# EAGLE library part TXU0101QDCKRQ1 (library txu0101qdckrq1)
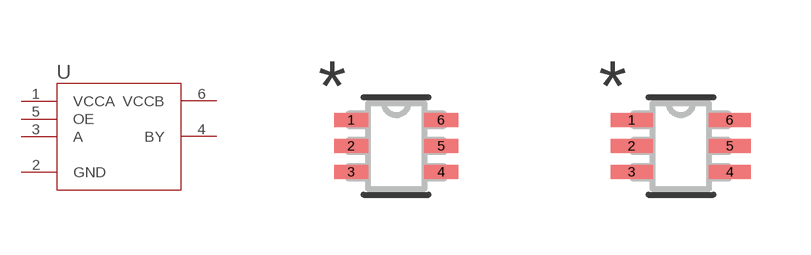
[diagram p0: symbol with the pads of SOT_101QDCKRQ1_TEX; footprints SOT_101QDCKRQ1_TEX, SOT_101QDCKRQ1_TEX-M]

Designator prefix U

## TXU0101QDCKRQ1 (COPYRIGHT: Copyright (C) 2024 Ultra Librarian. All rights reserved.; MANUFACTURER_PART_NUMBER: TXU0101QDCKRQ1; MFR_NAME: Texas Instruments)  [SOT_101QDCKRQ1_TEX]
1  VCCA  pwr
2  GND  pas
3  A  pas
4  BY  pas
5  OE  pas
6  VCCB  pwr

## TXU0101QDCKRQ1SOT_101QDCKRQ1_TEX-M (COPYRIGHT: Copyright (C) 2024 Ultra Librarian. All rights reserved.; MANUFACTURER_PART_NUMBER: TXU0101QDCKRQ1; MFR_NAME: Texas Instruments)  [SOT_101QDCKRQ1_TEX-M]
Pads as for SOT_101QDCKRQ1_TEX

## TXU0101QDCKRQ1SOT_101QDCKRQ1_TEX-L (COPYRIGHT: Copyright (C) 2024 Ultra Librarian. All rights reserved.; MANUFACTURER_PART_NUMBER: TXU0101QDCKRQ1; MFR_NAME: Texas Instruments)  [SOT_101QDCKRQ1_TEX-L]
Pads as for SOT_101QDCKRQ1_TEX

## Footprint SOT_101QDCKRQ1_TEX (pad centres in mm)
smd 0.851 x 0.356: 1 -1.124,0.65; 2 -1.124,0; 3 -1.124,-0.65; 4 1.124,-0.65; 5 1.124,0; 6 1.124,0.65

## Footprint SOT_101QDCKRQ1_TEX-M (pad centres in mm)
smd 1.054 x 0.356: 1 -1.226,0.65; 2 -1.226,0; 3 -1.226,-0.65; 4 1.226,-0.65; 5 1.226,0; 6 1.226,0.65

## Footprint SOT_101QDCKRQ1_TEX-L (pad centres in mm)
smd 0.648 x 0.305: 1 -1.022,0.65; 2 -1.022,0; 3 -1.022,-0.65; 4 1.022,-0.65; 5 1.022,0; 6 1.022,0.65